# Altium schematic symbol library m20048.SchLib: 1 symbol
Pins are listed as number, name and electrical type; pins without a type are passive.

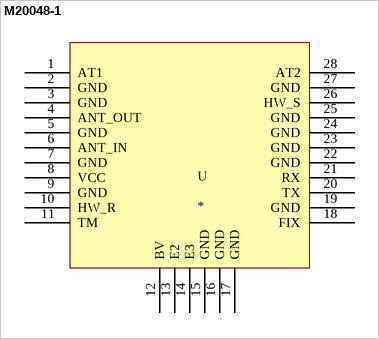
[diagram p0: symbol M20048-1]

## M20048-1
designator U
footprint M20048-1
pins: 1 AT1, 2 GND, 3 GND, 4 ANT_OUT, 5 GND, 6 ANT_IN, 7 GND, 8 VCC, 9 GND, 10 HW_R, 11 TM, 12 BV, 13 E2, 14 E3, 15 GND, 16 GND, 17 GND, 18 FIX, 19 GND, 20 TX, 21 RX, 22 GND, 23 GND, 24 GND, 25 GND, 26 HW_S, 27 GND, 28 AT2